# Altium footprint library ldc-front-connector-hw-library-pcb.PcbLib: 2 footprints
Each footprint in its own frame and in the unit in brackets; x right, y up, seen from the top. Pads: shape width x height; smd on the part's side, far side on the other; paste and mask are expansions set on the pad; w line width, h text height; cw(c..) or ccw(c..) is an arc to the next point about the centre after c.
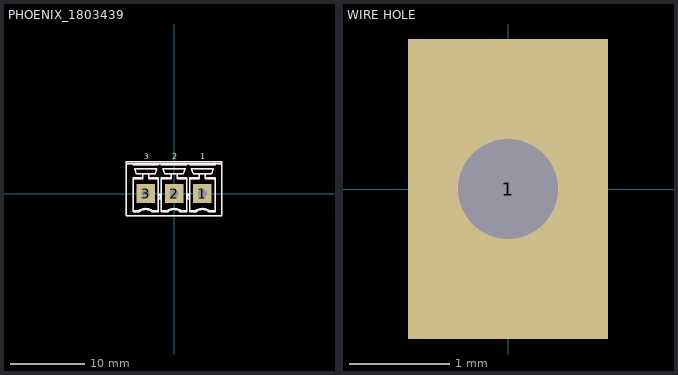
[diagram p0: the footprints below, top view; thin cyan lines are the x and y axes]

## PHOENIX_1803439 [mm]
pads (3):
  rect 2.5x2.5 hole 1.2: 1(3.81,0) 2(0,0) 3(-3.81,0)
Top Overlay:
  lines w0.2: -6.41,4 6.41,4 ; -5.515,-2.3 -4.71,-2.3 ; -5.515,2 -4.21,2 -4.21,2.47 ccw(c-4.41,2.47) -4.41,2.67 ; -5.513,3.9 -5.514,3.9 ; -5.513,4 -5.514,4 -5.514,3.9 ; -4.21,2.134 -5.515,2.134 -5.515,-2.434 -4.664,-2.434 ; -3.41,2.134 -2.105,2.134 -2.105,-2.434 -2.956,-2.434 ; -3.21,2.67 ccw(c-3.21,2.47) -3.41,2.47 -3.41,2 -2.105,2 ; -2.106,4 -2.105,4 -2.105,3.9 -2.106,3.9 -5.514,3.9 ; -2.105,-2.3 -2.91,-2.3 ; -1.705,-2.3 -0.9,-2.3 ; -1.705,2 -0.4,2 -0.4,2.47 ccw(c-0.6,2.47) -0.6,2.67 ; -1.703,3.9 -1.704,3.9 ; -1.703,4 -1.704,4 -1.704,3.9 ; -0.4,2.134 -1.705,2.134 -1.705,-2.434 -0.854,-2.434 ; 0.4,2.134 1.705,2.134 1.705,-2.434 0.854,-2.434 ; 0.6,2.67 ccw(c0.6,2.47) 0.4,2.47 0.4,2 1.705,2 ; 1.704,4 1.705,4 1.705,3.9 1.704,3.9 -1.704,3.9 ; 1.705,-2.3 0.9,-2.3 ; 2.105,-2.3 2.91,-2.3 ; 2.105,2 3.41,2 3.41,2.47 ccw(c3.21,2.47) 3.21,2.67 ; 2.107,3.9 2.106,3.9 ; 2.107,4 2.106,4 2.106,3.9 ; 3.41,2.134 2.105,2.134 2.105,-2.434 2.956,-2.434 ; 4.21,2.134 5.515,2.134 5.515,-2.434 4.664,-2.434 ; 4.41,2.67 ccw(c4.41,2.47) 4.21,2.47 4.21,2 5.515,2 ; 5.514,4 5.515,4 5.515,3.9 5.514,3.9 2.106,3.9 ; 5.515,-2.3 4.71,-2.3 ; -4.71,-2.3 cw(c-3.81,-3.5) -2.91,-2.3 ; -4.71,-2.3 -4.699,-2.334 -4.687,-2.367 ccw(c3.361,0.384) -4.664,-2.434 ; -4.664,-2.434 cw(c-3.81,-3.5) -2.956,-2.434 ; -2.956,-2.434 -2.944,-2.401 -2.933,-2.367 ccw(c-11.642,0.61) -2.91,-2.3 ; -0.9,-2.3 cw(c0,-3.5) 0.9,-2.3 ; -0.9,-2.3 -0.889,-2.334 -0.877,-2.367 ccw(c7.171,0.384) -0.854,-2.434 ; -0.854,-2.434 cw(c0,-3.5) 0.854,-2.434 ; 0.854,-2.434 0.866,-2.401 0.877,-2.367 ccw(c-7.832,0.61) 0.9,-2.3 ; 2.91,-2.3 cw(c3.81,-3.5) 4.71,-2.3 ; 2.91,-2.3 2.921,-2.334 2.933,-2.367 ccw(c10.981,0.384) 2.956,-2.434 ; 2.956,-2.434 cw(c3.81,-3.5) 4.664,-2.434 ; 4.664,-2.434 4.676,-2.401 4.687,-2.367 ccw(c-4.022,0.61) 4.71,-2.3 ; -6.41,-3 -6.41,4.25 6.41,4.25 6.41,-3 -6.41,-3 ; -5.3,3.35 -5.065,2.67 -2.555,2.67 -2.32,3.35 -5.3,3.35 ; -2.093,-0.7 -1.905,0 -1.717,-0.7 -2.093,-0.7 ; -1.49,3.35 -1.255,2.67 1.255,2.67 1.49,3.35 -1.49,3.35 ; 1.717,-0.7 1.905,0 2.093,-0.7 1.717,-0.7 ; 2.32,3.35 2.555,2.67 5.065,2.67 5.3,3.35 2.32,3.35
  text "3" at -4.085,4.6 h0.8
  text "2" at -0.275,4.6 h0.8
  text "1" at 3.535,4.6 h0.8
Mechanical 8:
  lines w0.1: -4.31,0 -3.81,0 ; -3.81,-0.5 -3.81,0 ; -3.81,0.5 -3.81,0 ; -3.31,0 -3.81,0 ; -0.5,0 0,0 ; 0,-0.5 0,0 ; 0,0.5 0,0 ; 0.5,0 0,0 ; 3.31,0 3.81,0 ; 3.81,-0.5 3.81,0 ; 3.81,0.5 3.81,0 ; 4.31,0 3.81,0
Mechanical 14:
  lines w0.1: -6.41,4 6.41,4 ; -5.515,-2.3 -4.71,-2.3 ; -5.515,2 -4.21,2 -4.21,2.47 ccw(c-4.41,2.47) -4.41,2.67 ; -5.513,3.9 -5.514,3.9 ; -5.513,4 -5.514,4 -5.514,3.9 ; -4.21,2.134 -5.515,2.134 -5.515,-2.434 -4.664,-2.434 ; -3.41,2.134 -2.105,2.134 -2.105,-2.434 -2.956,-2.434 ; -3.21,2.67 ccw(c-3.21,2.47) -3.41,2.47 -3.41,2 -2.105,2 ; -2.106,4 -2.105,4 -2.105,3.9 -2.106,3.9 -5.514,3.9 ; -2.105,-2.3 -2.91,-2.3 ; -1.705,-2.3 -0.9,-2.3 ; -1.705,2 -0.4,2 -0.4,2.47 ccw(c-0.6,2.47) -0.6,2.67 ; -1.703,3.9 -1.704,3.9 ; -1.703,4 -1.704,4 -1.704,3.9 ; -0.4,2.134 -1.705,2.134 -1.705,-2.434 -0.854,-2.434 ; 0.4,2.134 1.705,2.134 1.705,-2.434 0.854,-2.434 ; 0.6,2.67 ccw(c0.6,2.47) 0.4,2.47 0.4,2 1.705,2 ; 1.704,4 1.705,4 1.705,3.9 1.704,3.9 -1.704,3.9 ; 1.705,-2.3 0.9,-2.3 ; 2.105,-2.3 2.91,-2.3 ; 2.105,2 3.41,2 3.41,2.47 ccw(c3.21,2.47) 3.21,2.67 ; 2.107,3.9 2.106,3.9 ; 2.107,4 2.106,4 2.106,3.9 ; 3.41,2.134 2.105,2.134 2.105,-2.434 2.956,-2.434 ; 4.21,2.134 5.515,2.134 5.515,-2.434 4.664,-2.434 ; 4.41,2.67 ccw(c4.41,2.47) 4.21,2.47 4.21,2 5.515,2 ; 5.514,4 5.515,4 5.515,3.9 5.514,3.9 2.106,3.9 ; 5.515,-2.3 4.71,-2.3 ; -4.71,-2.3 cw(c-3.81,-3.5) -2.91,-2.3 ; -4.71,-2.3 -4.699,-2.334 -4.687,-2.367 ccw(c3.361,0.384) -4.664,-2.434 ; -4.664,-2.434 cw(c-3.81,-3.5) -2.956,-2.434 ; -2.956,-2.434 -2.944,-2.401 -2.933,-2.367 ccw(c-11.642,0.61) -2.91,-2.3 ; -0.9,-2.3 cw(c0,-3.5) 0.9,-2.3 ; -0.9,-2.3 -0.889,-2.334 -0.877,-2.367 ccw(c7.171,0.384) -0.854,-2.434 ; -0.854,-2.434 cw(c0,-3.5) 0.854,-2.434 ; 0.854,-2.434 0.866,-2.401 0.877,-2.367 ccw(c-7.832,0.61) 0.9,-2.3 ; 2.91,-2.3 cw(c3.81,-3.5) 4.71,-2.3 ; 2.91,-2.3 2.921,-2.334 2.933,-2.367 ccw(c10.981,0.384) 2.956,-2.434 ; 2.956,-2.434 cw(c3.81,-3.5) 4.664,-2.434 ; 4.664,-2.434 4.676,-2.401 4.687,-2.367 ccw(c-4.022,0.61) 4.71,-2.3 ; -6.41,-3 -6.41,4.25 6.41,4.25 6.41,-3 -6.41,-3 ; -5.3,3.35 -5.065,2.67 -2.555,2.67 -2.32,3.35 -5.3,3.35 ; -2.093,-0.7 -1.905,0 -1.717,-0.7 -2.093,-0.7 ; -1.49,3.35 -1.255,2.67 1.255,2.67 1.49,3.35 -1.49,3.35 ; 1.717,-0.7 1.905,0 2.093,-0.7 1.717,-0.7 ; 2.32,3.35 2.555,2.67 5.065,2.67 5.3,3.35 2.32,3.35
  text "CON?" at -1.651,-5.08 h1
3D body "PHOENIX_1803439.stp": height 9.2, standoff -3.4, extent -6.41,-3 6.41,4.25

## WIRE HOLE [mm]
pads (1):
  rect 2x3 hole 1: 1(0,0)
Mechanical 14:
  text "WH?" at -1.143,-3.683 h1